# EAGLE library part SAMA5D21 (library Atmel-SAMA5D2x_BGA196)
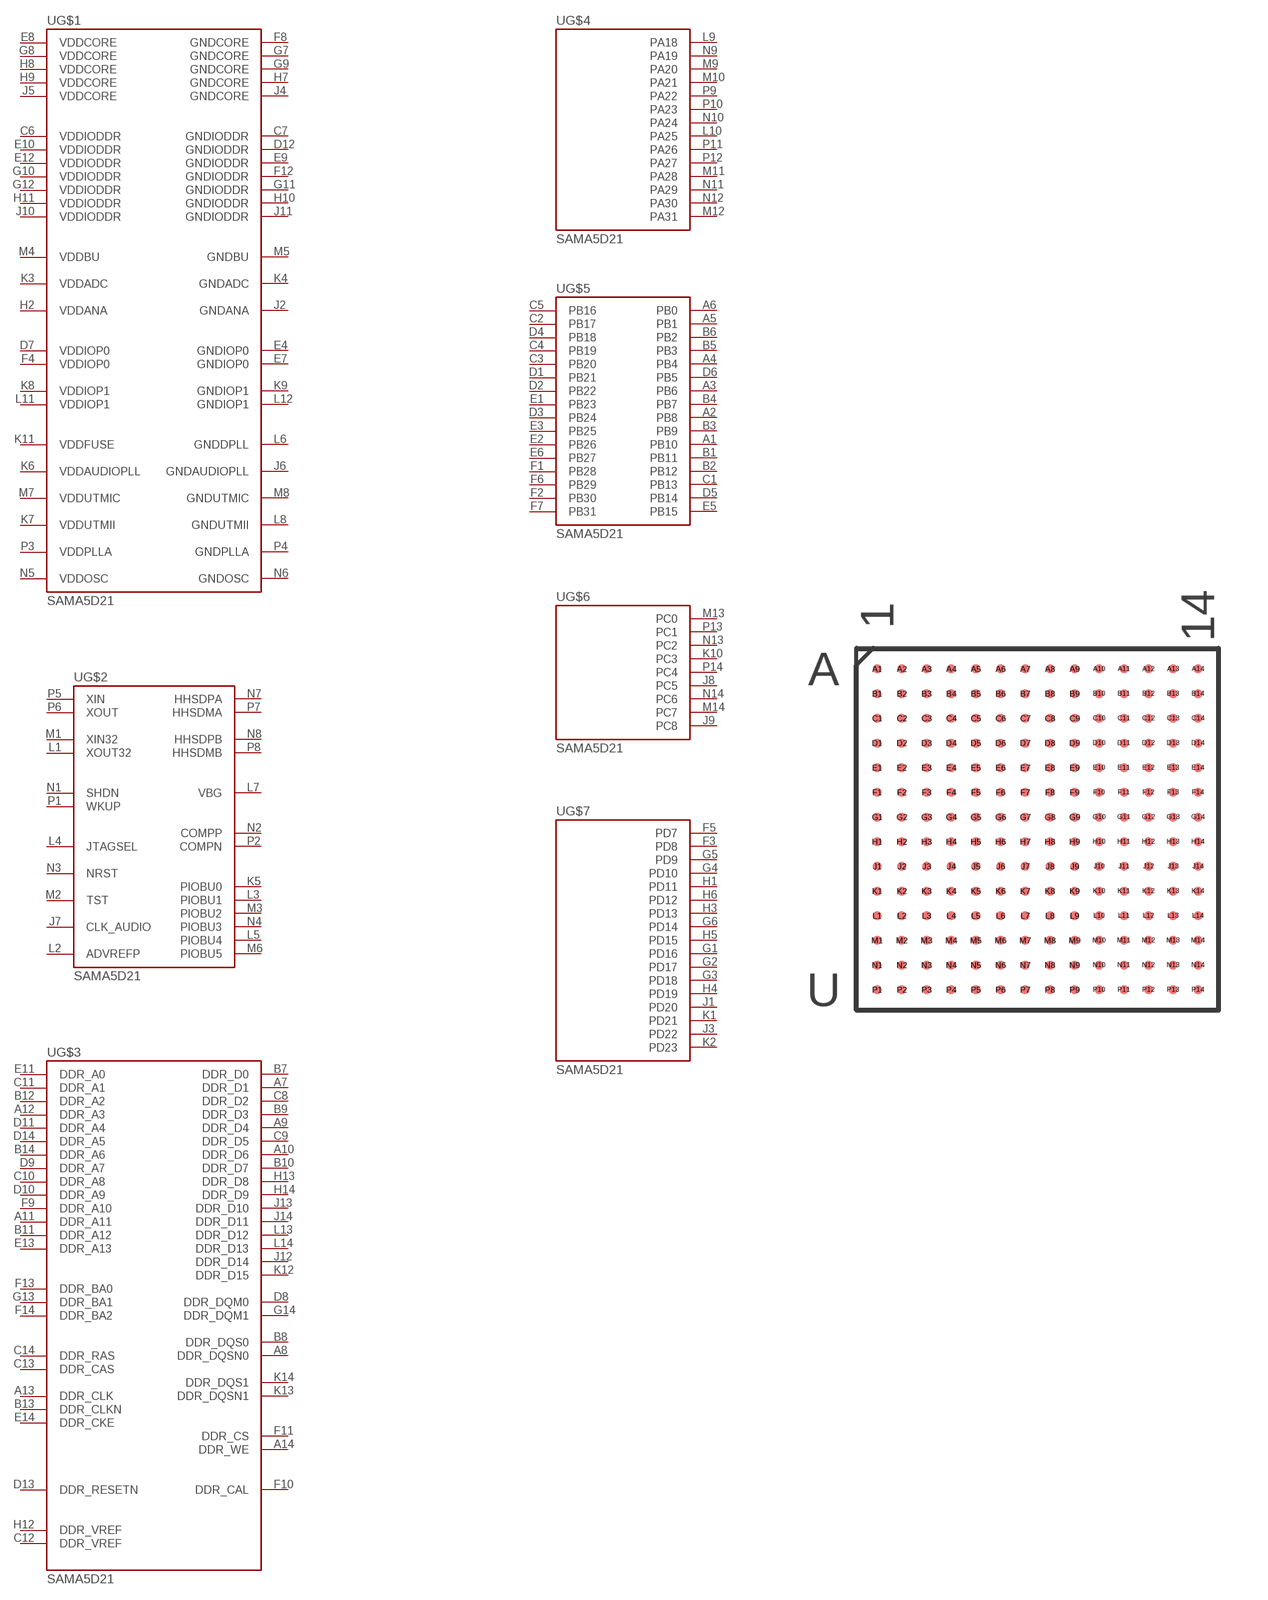
[diagram p0: symbol with the pads of BGA196; footprint BGA196]

Designator prefix -; gates G$1=SAMA5D2X_196_PWR G$2=SAMA5D2X_196_SYS G$3=SAMA5D2X_196_DDR G$4=SAMA5D2X_196_PIOA G$5=SAMA5D2X_196_PIOB G$6=SAMA5D2X_196_PIOC G$7=SAMA5D2X_196_PIOD

## SAMA5D21  [BGA196]
A1  G$5:PB10
A2  G$5:PB8
A3  G$5:PB6
A4  G$5:PB4
A5  G$5:PB1
A6  G$5:PB0
A7  G$3:DDR_D1
A8  G$3:DDR_DQSN0
A9  G$3:DDR_D4
A10  G$3:DDR_D6
A11  G$3:DDR_A11
A12  G$3:DDR_A3
A13  G$3:DDR_CLK
A14  G$3:DDR_WE
B1  G$5:PB11
B2  G$5:PB12
B3  G$5:PB9
B4  G$5:PB7
B5  G$5:PB3
B6  G$5:PB2
B7  G$3:DDR_D0
B8  G$3:DDR_DQS0
B9  G$3:DDR_D3
B10  G$3:DDR_D7
B11  G$3:DDR_A12
B12  G$3:DDR_A2
B13  G$3:DDR_CLKN
B14  G$3:DDR_A6
C1  G$5:PB13
C2  G$5:PB17
C3  G$5:PB20
C4  G$5:PB19
C5  G$5:PB16
C6  G$1:VDDIODDR  pwr
C7  G$1:GNDIODDR  pwr
C8  G$3:DDR_D2
C9  G$3:DDR_D5
C10  G$3:DDR_A8
C11  G$3:DDR_A1
C12  G$3:DDR_VREF
C13  G$3:DDR_CAS
C14  G$3:DDR_RAS
D1  G$5:PB21
D2  G$5:PB22
D3  G$5:PB24
D4  G$5:PB18
D5  G$5:PB14
D6  G$5:PB5
D7  G$1:VDDIOP0  pwr
D8  G$3:DDR_DQM0
D9  G$3:DDR_A7
D10  G$3:DDR_A9
D11  G$3:DDR_A4
D12  G$1:GNDIODDR  pwr
D13  G$3:DDR_RESETN
D14  G$3:DDR_A5
E1  G$5:PB23
E2  G$5:PB26
E3  G$5:PB25
E4  G$1:GNDIOP0  pwr
E5  G$5:PB15
E6  G$5:PB27
E7  G$1:GNDIOP0  pwr
E8  G$1:VDDCORE  pwr
E9  G$1:GNDIODDR  pwr
E10  G$1:VDDIODDR  pwr
E11  G$3:DDR_A0
E12  G$1:VDDIODDR  pwr
E13  G$3:DDR_A13
E14  G$3:DDR_CKE
F1  G$5:PB28
F2  G$5:PB30
F3  G$7:PD8
F4  G$1:VDDIOP0  pwr
F5  G$7:PD7
F6  G$5:PB29
F7  G$5:PB31
F8  G$1:GNDCORE  pwr
F9  G$3:DDR_A10
F10  G$3:DDR_CAL
F11  G$3:DDR_CS
F12  G$1:GNDIODDR  pwr
F13  G$3:DDR_BA0
F14  G$3:DDR_BA2
G1  G$7:PD16
G2  G$7:PD17
G3  G$7:PD18
G4  G$7:PD10
G5  G$7:PD9
G6  G$7:PD14
G7  G$1:GNDCORE  pwr
G8  G$1:VDDCORE  pwr
G9  G$1:GNDCORE  pwr
G10  G$1:VDDIODDR  pwr
G11  G$1:GNDIODDR  pwr
G12  G$1:VDDIODDR  pwr
G13  G$3:DDR_BA1
G14  G$3:DDR_DQM1
H1  G$7:PD11
H2  G$1:VDDANA  pwr
H3  G$7:PD13
H4  G$7:PD19
H5  G$7:PD15
H6  G$7:PD12
H7  G$1:GNDCORE  pwr
H8  G$1:VDDCORE  pwr
H9  G$1:VDDCORE  pwr
H10  G$1:GNDIODDR  pwr
H11  G$1:VDDIODDR  pwr
H12  G$3:DDR_VREF
H13  G$3:DDR_D8
H14  G$3:DDR_D9
J1  G$7:PD20
J2  G$1:GNDANA  pwr
J3  G$7:PD22
J4  G$1:GNDCORE  pwr
J5  G$1:VDDCORE  pwr
J6  G$1:GNDAUDIOPLL  pwr
J7  G$2:CLK_AUDIO
J8  G$6:PC5
J9  G$6:PC8
J10  G$1:VDDIODDR  pwr
J11  G$1:GNDIODDR  pwr
J12  G$3:DDR_D14
J13  G$3:DDR_D10
J14  G$3:DDR_D11
K1  G$7:PD21
K2  G$7:PD23
K3  G$1:VDDADC  pwr
K4  G$1:GNDADC  pwr
K5  G$2:PIOBU0
K6  G$1:VDDAUDIOPLL  pwr
K7  G$1:VDDUTMII  pwr
K8  G$1:VDDIOP1  pwr
K9  G$1:GNDIOP1  pwr
K10  G$6:PC3
K11  G$1:VDDFUSE  pwr
K12  G$3:DDR_D15
K13  G$3:DDR_DQSN1
K14  G$3:DDR_DQS1
L1  G$2:XOUT32
L2  G$2:ADVREFP
L3  G$2:PIOBU1
L4  G$2:JTAGSEL
L5  G$2:PIOBU4
L6  G$1:GNDDPLL  pwr
L7  G$2:VBG
L8  G$1:GNDUTMII  pwr
L9  G$4:PA18
L10  G$4:PA25
L11  G$1:VDDIOP1  pwr
L12  G$1:GNDIOP1  pwr
L13  G$3:DDR_D12
L14  G$3:DDR_D13
M1  G$2:XIN32
M2  G$2:TST
M3  G$2:PIOBU2
M4  G$1:VDDBU  pwr
M5  G$1:GNDBU  pwr
M6  G$2:PIOBU5
M7  G$1:VDDUTMIC  pwr
M8  G$1:GNDUTMIC  pwr
M9  G$4:PA20
M10  G$4:PA21
M11  G$4:PA28
M12  G$4:PA31
M13  G$6:PC0
M14  G$6:PC7
N1  G$2:SHDN
N2  G$2:COMPP
N3  G$2:NRST
N4  G$2:PIOBU3
N5  G$1:VDDOSC  pwr
N6  G$1:GNDOSC  pwr
N7  G$2:HHSDPA
N8  G$2:HHSDPB
N9  G$4:PA19
N10  G$4:PA24
N11  G$4:PA29
N12  G$4:PA30
N13  G$6:PC2
N14  G$6:PC6
P1  G$2:WKUP
P2  G$2:COMPN
P3  G$1:VDDPLLA  pwr
P4  G$1:GNDPLLA  pwr
P5  G$2:XIN
P6  G$2:XOUT
P7  G$2:HHSDMA
P8  G$2:HHSDMB
P9  G$4:PA22
P10  G$4:PA23
P11  G$4:PA26
P12  G$4:PA27
P13  G$6:PC1
P14  G$6:PC4

## Footprint BGA196 (pad centres in mm)
smd 0.275 x 0.275: A1 -4.875,4.875; A2 -4.125,4.875; A3 -3.375,4.875; A4 -2.625,4.875; A5 -1.875,4.875; A6 -1.125,4.875; A7 -0.375,4.875; A8 0.375,4.875; A9 1.125,4.875; A10 1.875,4.875; A11 2.625,4.875; A12 3.375,4.875; A13 4.125,4.875; A14 4.875,4.875; B1 -4.875,4.125; B2 -4.125,4.125; B3 -3.375,4.125; B4 -2.625,4.125; B5 -1.875,4.125; B6 -1.125,4.125; B7 -0.375,4.125; B8 0.375,4.125; B9 1.125,4.125; B10 1.875,4.125; B11 2.625,4.125; B12 3.375,4.125; B13 4.125,4.125; B14 4.875,4.125; C1 -4.875,3.375; C2 -4.125,3.375; C3 -3.375,3.375; C4 -2.625,3.375; C5 -1.875,3.375; C6 -1.125,3.375; C7 -0.375,3.375; C8 0.375,3.375; C9 1.125,3.375; C10 1.875,3.375; C11 2.625,3.375; C12 3.375,3.375; C13 4.125,3.375; C14 4.875,3.375; D1 -4.875,2.625; D2 -4.125,2.625; D3 -3.375,2.625; D4 -2.625,2.625; D5 -1.875,2.625; D6 -1.125,2.625; D7 -0.375,2.625; D8 0.375,2.625; D9 1.125,2.625; D10 1.875,2.625; D11 2.625,2.625; D12 3.375,2.625; D13 4.125,2.625; D14 4.875,2.625; E1 -4.875,1.875; E2 -4.125,1.875; E3 -3.375,1.875; E4 -2.625,1.875; E5 -1.875,1.875; E6 -1.125,1.875; E7 -0.375,1.875; E8 0.375,1.875; E9 1.125,1.875; E10 1.875,1.875; E11 2.625,1.875; E12 3.375,1.875; E13 4.125,1.875; E14 4.875,1.875; F1 -4.875,1.125; F2 -4.125,1.125; F3 -3.375,1.125; F4 -2.625,1.125; F5 -1.875,1.125; F6 -1.125,1.125; F7 -0.375,1.125; F8 0.375,1.125; F9 1.125,1.125; F10 1.875,1.125; F11 2.625,1.125; F12 3.375,1.125; F13 4.125,1.125; F14 4.875,1.125; G1 -4.875,0.375; G2 -4.125,0.375; G3 -3.375,0.375; G4 -2.625,0.375; G5 -1.875,0.375; G6 -1.125,0.375; G7 -0.375,0.375; G8 0.375,0.375; G9 1.125,0.375; G10 1.875,0.375; G11 2.625,0.375; G12 3.375,0.375; G13 4.125,0.375; G14 4.875,0.375; H1 -4.875,-0.375; H2 -4.125,-0.375; H3 -3.375,-0.375; H4 -2.625,-0.375; H5 -1.875,-0.375; H6 -1.125,-0.375; H7 -0.375,-0.375; H8 0.375,-0.375; H9 1.125,-0.375; H10 1.875,-0.375; H11 2.625,-0.375; H12 3.375,-0.375; H13 4.125,-0.375; H14 4.875,-0.375; J1 -4.875,-1.125; J2 -4.125,-1.125; J3 -3.375,-1.125; J4 -2.625,-1.125; J5 -1.875,-1.125; J6 -1.125,-1.125; J7 -0.375,-1.125; J8 0.375,-1.125; J9 1.125,-1.125; J10 1.875,-1.125; J11 2.625,-1.125; J12 3.375,-1.125; J13 4.125,-1.125; J14 4.875,-1.125; K1 -4.875,-1.875; K2 -4.125,-1.875; K3 -3.375,-1.875; K4 -2.625,-1.875; K5 -1.875,-1.875; K6 -1.125,-1.875; K7 -0.375,-1.875; K8 0.375,-1.875; K9 1.125,-1.875; K10 1.875,-1.875; K11 2.625,-1.875; K12 3.375,-1.875; K13 4.125,-1.875; K14 4.875,-1.875; L1 -4.875,-2.625; L2 -4.125,-2.625; L3 -3.375,-2.625; L4 -2.625,-2.625; L5 -1.875,-2.625; L6 -1.125,-2.625; L7 -0.375,-2.625; L8 0.375,-2.625; L9 1.125,-2.625; L10 1.875,-2.625; L11 2.625,-2.625; L12 3.375,-2.625; L13 4.125,-2.625; L14 4.875,-2.625; M1 -4.875,-3.375; M2 -4.125,-3.375; M3 -3.375,-3.375; M4 -2.625,-3.375; M5 -1.875,-3.375; M6 -1.125,-3.375; M7 -0.375,-3.375; M8 0.375,-3.375; M9 1.125,-3.375; M10 1.875,-3.375; M11 2.625,-3.375; M12 3.375,-3.375; M13 4.125,-3.375; M14 4.875,-3.375; N1 -4.875,-4.125; N2 -4.125,-4.125; N3 -3.375,-4.125; N4 -2.625,-4.125; N5 -1.875,-4.125; N6 -1.125,-4.125; N7 -0.375,-4.125; N8 0.375,-4.125; N9 1.125,-4.125; N10 1.875,-4.125; N11 2.625,-4.125; N12 3.375,-4.125; N13 4.125,-4.125; N14 4.875,-4.125; P1 -4.875,-4.875; P2 -4.125,-4.875; P3 -3.375,-4.875; P4 -2.625,-4.875; P5 -1.875,-4.875; P6 -1.125,-4.875; P7 -0.375,-4.875; P8 0.375,-4.875; P9 1.125,-4.875; P10 1.875,-4.875; P11 2.625,-4.875; P12 3.375,-4.875; P13 4.125,-4.875; P14 4.875,-4.875